# EAGLE library part SWITCH-KOAX-SIL (library 1A-meinLib)
SIL Reed Relays mit Koax ( Coax ) Abschirmung, Pickering Serie 103
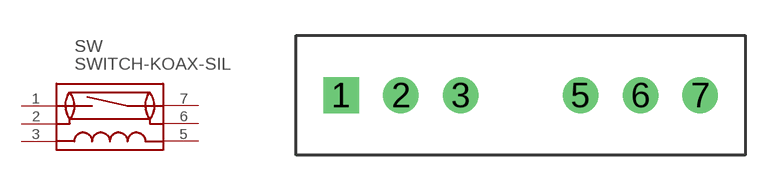
[diagram p30: symbol with the pads of SIL-REED-RELAYS; footprint SIL-REED-RELAYS]

Designator prefix SW

## SWITCH-KOAX-SIL  [SIL-REED-RELAYS]
1  P$1
2  P$2
3  P$3
5  P$5
6  P$6
7  P$7

## Footprint SIL-REED-RELAYS (pad centres in mm)
drill 1 square: 1 -7.62,0
drill 1 round: 2 -5.08,0; 3 -2.54,0; 5 2.54,0; 6 5.08,0; 7 7.62,0